# Altium footprint library Package_CSP.PcbLib: 127 footprints (part 3 of 8)
Each footprint in its own frame and in the unit in brackets; x right, y up, seen from the top. Pads: shape width x height; smd on the part's side, far side on the other; paste and mask are expansions set on the pad; w line width, h text height; cw(c..) or ccw(c..) is an arc to the next point about the centre after c.
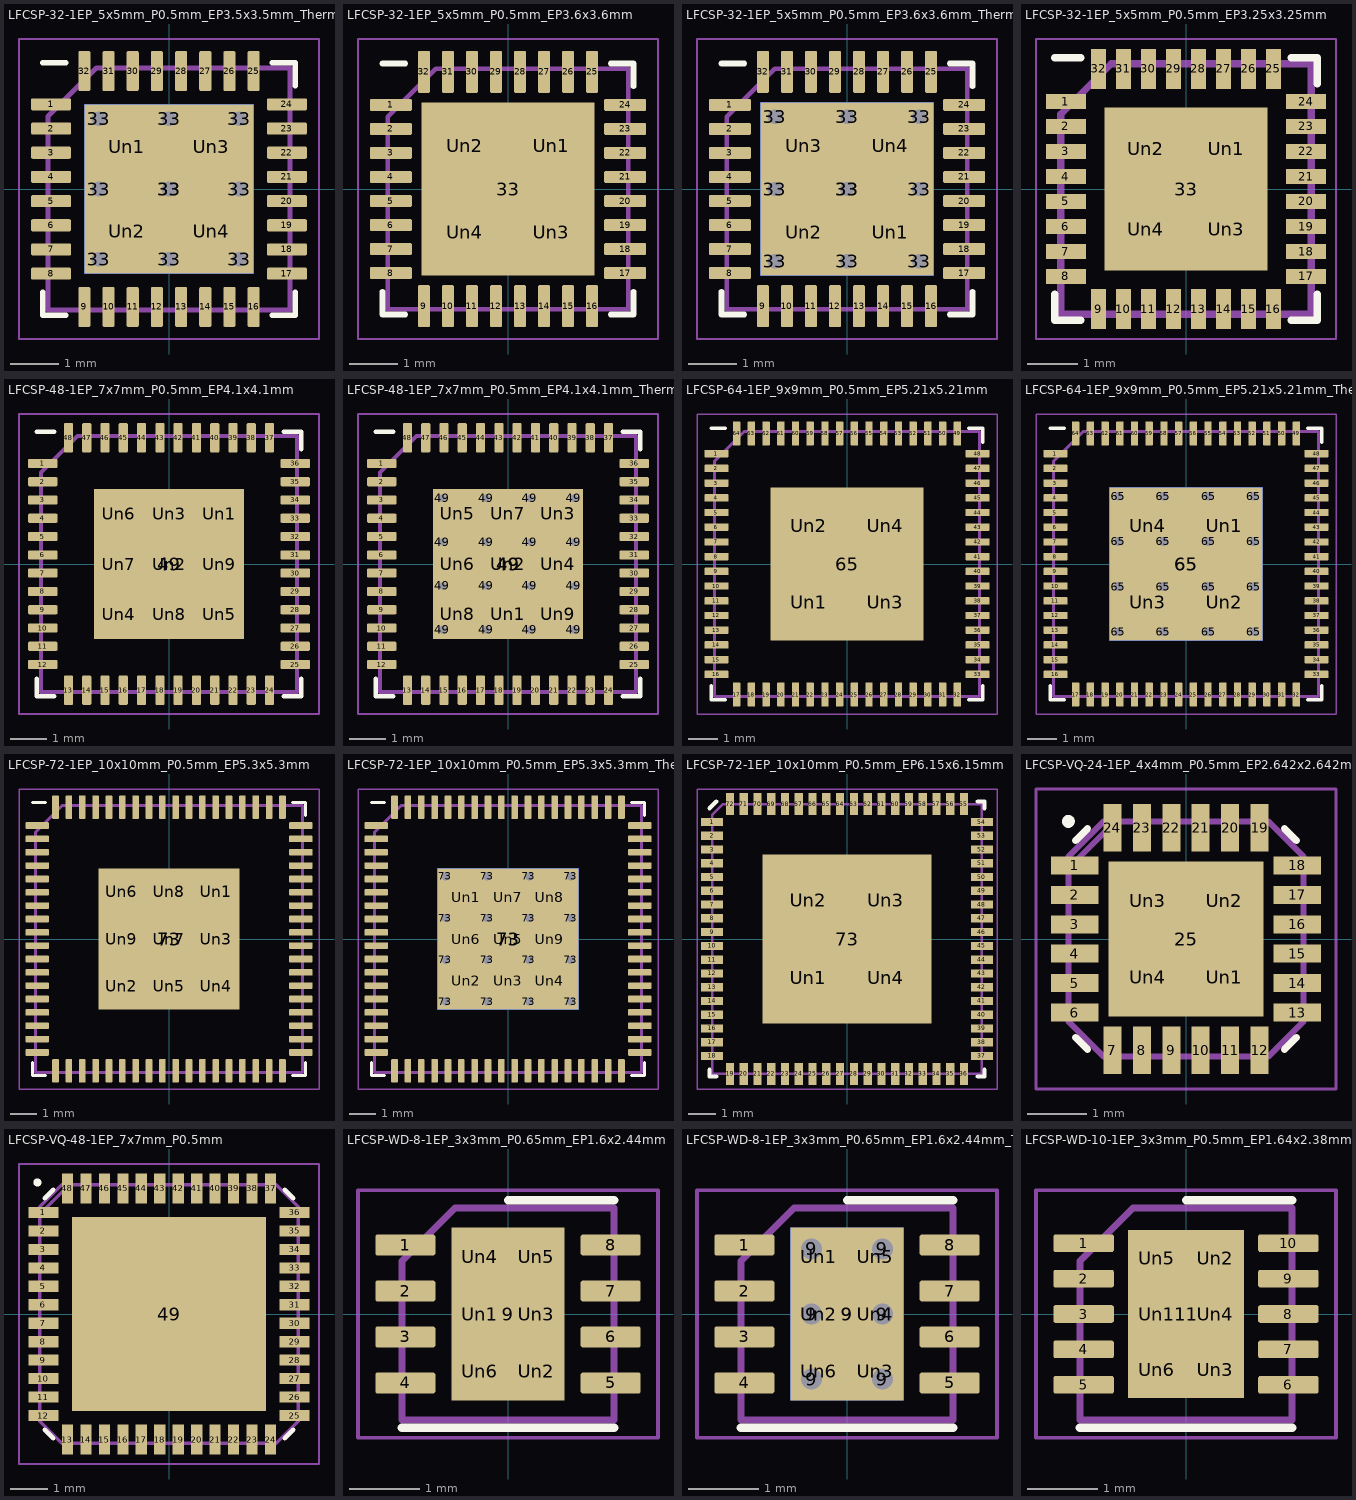
[diagram p2: the footprints below, top view; thin cyan lines are the x and y axes]

## LFCSP-32-1EP_5x5mm_P0.5mm_EP3.5x3.5mm_ThermalVias [mm]
pads (47):
  rrect25% 0.825x0.25 smd: 1(-2.438,1.75) 2(-2.438,1.25) 3(-2.438,0.75) 4(-2.438,0.25) 5(-2.438,-0.25) 6(-2.438,-0.75) 7(-2.438,-1.25) 8(-2.438,-1.75) 17(2.438,-1.75) 18(2.438,-1.25) 19(2.438,-0.75) 20(2.438,-0.25) 21(2.438,0.25) 22(2.438,0.75) 23(2.438,1.25) 24(2.438,1.75)
  rrect25% 0.25x0.825 smd: 9(-1.75,-2.438) 10(-1.25,-2.438) 11(-0.75,-2.438) 12(-0.25,-2.438) 13(0.25,-2.438) 14(0.75,-2.438) 15(1.25,-2.438) 16(1.75,-2.438) 25(1.75,2.438) 26(1.25,2.438) 27(0.75,2.438) 28(0.25,2.438) 29(-0.25,2.438) 30(-0.75,2.438) 31(-1.25,2.438) 32(-1.75,2.438)
  round 0.6 hole 0.3: 33(-1.45,-1.45) 33(-1.45,0) 33(-1.45,1.45) 33(0,-1.45) 33(0,0) 33(0,1.45) 33(1.45,-1.45) 33(1.45,0) 33(1.45,1.45)
  rect 3.5x3.5 smd: 33(0,0)
  rect 3.5x3.5 smd far side: 33(0,0)
  rrect17% 1.46x1.46 on Top Paste: Un1(-0.875,0.875) Un2(-0.875,-0.875) Un3(0.875,0.875) Un4(0.875,-0.875)
F.SilkS:
  lines w0.12: -2.61,-2.135 -2.61,-2.61 -2.135,-2.61 ; -2.61,2.61 -2.135,2.61 ; 2.135,-2.61 2.61,-2.61 2.61,-2.135 ; 2.135,2.61 2.61,2.61 2.61,2.135
F.CrtYd:
  lines w0.05: -3.1,-3.1 -3.1,3.1 3.1,3.1 3.1,-3.1 -3.1,-3.1
F.Fab:
  lines w0.1: -2.5,-2.5 2.5,-2.5 2.5,2.5 -1.5,2.5 -2.5,1.5 -2.5,-2.5
  text "'.Designator'" at -4.047,-0.84 h1

## LFCSP-32-1EP_5x5mm_P0.5mm_EP3.6x3.6mm [mm]
pads (37):
  rrect25% 0.875x0.25 smd: 1(-2.438,1.75) 2(-2.438,1.25) 3(-2.438,0.75) 4(-2.438,0.25) 5(-2.438,-0.25) 6(-2.438,-0.75) 7(-2.438,-1.25) 8(-2.438,-1.75) 17(2.438,-1.75) 18(2.438,-1.25) 19(2.438,-0.75) 20(2.438,-0.25) 21(2.438,0.25) 22(2.438,0.75) 23(2.438,1.25) 24(2.438,1.75)
  rrect25% 0.25x0.875 smd: 9(-1.75,-2.438) 10(-1.25,-2.438) 11(-0.75,-2.438) 12(-0.25,-2.438) 13(0.25,-2.438) 14(0.75,-2.438) 15(1.25,-2.438) 16(1.75,-2.438) 25(1.75,2.438) 26(1.25,2.438) 27(0.75,2.438) 28(0.25,2.438) 29(-0.25,2.438) 30(-0.75,2.438) 31(-1.25,2.438) 32(-1.75,2.438)
  rect 3.6x3.6 smd: 33(0,0)
  rrect17% 1.45x1.45 on Top Paste: Un1(0.9,0.9) Un2(-0.9,0.9) Un3(0.9,-0.9) Un4(-0.9,-0.9)
F.SilkS:
  lines w0.12: -2.61,-2.135 -2.61,-2.61 -2.135,-2.61 ; -2.61,2.61 -2.135,2.61 ; 2.135,-2.61 2.61,-2.61 2.61,-2.135 ; 2.135,2.61 2.61,2.61 2.61,2.135
F.CrtYd:
  lines w0.05: -3.12,-3.12 3.12,-3.12 3.12,3.12 -3.12,3.12 -3.12,-3.12
F.Fab:
  lines w0.1: -2.5,-2.5 2.5,-2.5 2.5,2.5 -1.5,2.5 -2.5,1.5 -2.5,-2.5
  text "'.Designator'" at -4.047,-0.84 h1

## LFCSP-32-1EP_5x5mm_P0.5mm_EP3.6x3.6mm_ThermalVias [mm]
pads (47):
  rrect25% 0.875x0.25 smd: 1(-2.438,1.75) 2(-2.438,1.25) 3(-2.438,0.75) 4(-2.438,0.25) 5(-2.438,-0.25) 6(-2.438,-0.75) 7(-2.438,-1.25) 8(-2.438,-1.75) 17(2.438,-1.75) 18(2.438,-1.25) 19(2.438,-0.75) 20(2.438,-0.25) 21(2.438,0.25) 22(2.438,0.75) 23(2.438,1.25) 24(2.438,1.75)
  rrect25% 0.25x0.875 smd: 9(-1.75,-2.438) 10(-1.25,-2.438) 11(-0.75,-2.438) 12(-0.25,-2.438) 13(0.25,-2.438) 14(0.75,-2.438) 15(1.25,-2.438) 16(1.75,-2.438) 25(1.75,2.438) 26(1.25,2.438) 27(0.75,2.438) 28(0.25,2.438) 29(-0.25,2.438) 30(-0.75,2.438) 31(-1.25,2.438) 32(-1.75,2.438)
  round 0.6 hole 0.3: 33(-1.5,-1.5) 33(-1.5,0) 33(-1.5,1.5) 33(0,-1.5) 33(0,0) 33(0,1.5) 33(1.5,-1.5) 33(1.5,0) 33(1.5,1.5)
  rect 3.6x3.6 smd: 33(0,0)
  rect 3.6x3.6 smd far side: 33(0,0)
  rrect17% 1.51x1.51 on Top Paste: Un1(0.9,-0.9) Un2(-0.9,-0.9) Un3(-0.9,0.9) Un4(0.9,0.9)
F.SilkS:
  lines w0.12: -2.61,-2.135 -2.61,-2.61 -2.135,-2.61 ; -2.61,2.61 -2.135,2.61 ; 2.135,-2.61 2.61,-2.61 2.61,-2.135 ; 2.135,2.61 2.61,2.61 2.61,2.135
F.CrtYd:
  lines w0.05: -3.12,-3.12 3.12,-3.12 3.12,3.12 -3.12,3.12 -3.12,-3.12
F.Fab:
  lines w0.1: -2.5,-2.5 2.5,-2.5 2.5,2.5 -1.5,2.5 -2.5,1.5 -2.5,-2.5
  text "'.Designator'" at -4.047,-0.84 h1

## LFCSP-32-1EP_5x5mm_P0.5mm_EP3.25x3.25mm [mm]
pads (37):
  rect 0.8x0.3 smd: 1(-2.4,1.75) 2(-2.4,1.25) 3(-2.4,0.75) 4(-2.4,0.25) 5(-2.4,-0.25) 6(-2.4,-0.75) 7(-2.4,-1.25) 8(-2.4,-1.75) 17(2.4,-1.75) 18(2.4,-1.25) 19(2.4,-0.75) 20(2.4,-0.25) 21(2.4,0.25) 22(2.4,0.75) 23(2.4,1.25) 24(2.4,1.75)
  rect 0.3x0.8 smd: 9(-1.75,-2.4) 10(-1.25,-2.4) 11(-0.75,-2.4) 12(-0.25,-2.4) 13(0.25,-2.4) 14(0.75,-2.4) 15(1.25,-2.4) 16(1.75,-2.4) 25(1.75,2.4) 26(1.25,2.4) 27(0.75,2.4) 28(0.25,2.4) 29(-0.25,2.4) 30(-0.75,2.4) 31(-1.25,2.4) 32(-1.75,2.4)
  rect 3.25x3.25 smd: 33(0,0)
  rect 1.3x1.3 on Top Paste: Un1(0.8,0.8) Un2(-0.8,0.8) Un3(0.8,-0.8) Un4(-0.8,-0.8)
F.SilkS:
  lines w0.15: -2.625,-2.1 -2.625,-2.625 -2.1,-2.625 ; -2.625,2.625 -2.1,2.625 ; 2.1,-2.625 2.625,-2.625 2.625,-2.1 ; 2.1,2.625 2.625,2.625 2.625,2.1
F.CrtYd:
  lines w0.05: -3,-3 -3,3 3,3 3,-3 -3,-3
F.Fab:
  lines w0.15: -2.5,-2.5 -2.5,1.5 -1.5,2.5 2.5,2.5 2.5,-2.5 -2.5,-2.5
  text "'.Designator'" at -4.047,-0.84 h1

## LFCSP-48-1EP_7x7mm_P0.5mm_EP4.1x4.1mm [mm]
pads (58):
  rrect25% 0.8x0.25 smd: 1(-3.45,2.75) 2(-3.45,2.25) 3(-3.45,1.75) 4(-3.45,1.25) 5(-3.45,0.75) 6(-3.45,0.25) 7(-3.45,-0.25) 8(-3.45,-0.75) 9(-3.45,-1.25) 10(-3.45,-1.75) 11(-3.45,-2.25) 12(-3.45,-2.75) 25(3.45,-2.75) 26(3.45,-2.25) 27(3.45,-1.75) 28(3.45,-1.25) 29(3.45,-0.75) 30(3.45,-0.25) 31(3.45,0.25) 32(3.45,0.75) 33(3.45,1.25) 34(3.45,1.75) 35(3.45,2.25) 36(3.45,2.75)
  rrect25% 0.25x0.8 smd: 13(-2.75,-3.45) 14(-2.25,-3.45) 15(-1.75,-3.45) 16(-1.25,-3.45) 17(-0.75,-3.45) 18(-0.25,-3.45) 19(0.25,-3.45) 20(0.75,-3.45) 21(1.25,-3.45) 22(1.75,-3.45) 23(2.25,-3.45) 24(2.75,-3.45) 37(2.75,3.45) 38(2.25,3.45) 39(1.75,3.45) 40(1.25,3.45) 41(0.75,3.45) 42(0.25,3.45) 43(-0.25,3.45) 44(-0.75,3.45) 45(-1.25,3.45) 46(-1.75,3.45) 47(-2.25,3.45) 48(-2.75,3.45)
  rect 4.1x4.1 smd: 49(0,0)
  rrect23% 1.1x1.1 on Top Paste: Un1(1.37,1.37) Un2(0,0) Un3(0,1.37) Un4(-1.37,-1.37) Un5(1.37,-1.37) Un6(-1.37,1.37) Un7(-1.37,0) Un8(0,-1.37) Un9(1.37,0)
F.SilkS:
  lines w0.12: -3.61,-3.135 -3.61,-3.61 -3.135,-3.61 ; -3.61,3.61 -3.135,3.61 ; 3.135,-3.61 3.61,-3.61 3.61,-3.135 ; 3.135,3.61 3.61,3.61 3.61,3.135
F.CrtYd:
  lines w0.05: -4.1,-4.1 -4.1,4.1 4.1,4.1 4.1,-4.1 -4.1,-4.1
F.Fab:
  lines w0.1: -3.5,-3.5 3.5,-3.5 3.5,3.5 -2.5,3.5 -3.5,2.5 -3.5,-3.5
  text "'.Designator'" at -4.047,-0.84 h1

## LFCSP-48-1EP_7x7mm_P0.5mm_EP4.1x4.1mm_ThermalVias [mm]
pads (75):
  rrect25% 0.8x0.25 smd: 1(-3.45,2.75) 2(-3.45,2.25) 3(-3.45,1.75) 4(-3.45,1.25) 5(-3.45,0.75) 6(-3.45,0.25) 7(-3.45,-0.25) 8(-3.45,-0.75) 9(-3.45,-1.25) 10(-3.45,-1.75) 11(-3.45,-2.25) 12(-3.45,-2.75) 25(3.45,-2.75) 26(3.45,-2.25) 27(3.45,-1.75) 28(3.45,-1.25) 29(3.45,-0.75) 30(3.45,-0.25) 31(3.45,0.25) 32(3.45,0.75) 33(3.45,1.25) 34(3.45,1.75) 35(3.45,2.25) 36(3.45,2.75)
  rrect25% 0.25x0.8 smd: 13(-2.75,-3.45) 14(-2.25,-3.45) 15(-1.75,-3.45) 16(-1.25,-3.45) 17(-0.75,-3.45) 18(-0.25,-3.45) 19(0.25,-3.45) 20(0.75,-3.45) 21(1.25,-3.45) 22(1.75,-3.45) 23(2.25,-3.45) 24(2.75,-3.45) 37(2.75,3.45) 38(2.25,3.45) 39(1.75,3.45) 40(1.25,3.45) 41(0.75,3.45) 42(0.25,3.45) 43(-0.25,3.45) 44(-0.75,3.45) 45(-1.25,3.45) 46(-1.75,3.45) 47(-2.25,3.45) 48(-2.75,3.45)
  round 0.5 hole 0.2: 49(-1.8,-1.8) 49(-1.8,-0.6) 49(-1.8,0.6) 49(-1.8,1.8) 49(-0.6,-1.8) 49(-0.6,-0.6) 49(-0.6,0.6) 49(-0.6,1.8) 49(0.6,-1.8) 49(0.6,-0.6) 49(0.6,0.6) 49(0.6,1.8) 49(1.8,-1.8) 49(1.8,-0.6) 49(1.8,0.6) 49(1.8,1.8)
  rect 4.1x4.1 smd far side: 49(0,0)
  rect 4.1x4.1 smd: 49(0,0)
  rrect22% 1.14x1.14 on Top Paste: Un1(0,-1.37) Un2(0,0) Un3(1.37,1.37) Un4(1.37,0) Un5(-1.37,1.37) Un6(-1.37,0) Un7(0,1.37) Un8(-1.37,-1.37) Un9(1.37,-1.37)
F.SilkS:
  lines w0.12: -3.61,-3.135 -3.61,-3.61 -3.135,-3.61 ; -3.61,3.61 -3.135,3.61 ; 3.135,-3.61 3.61,-3.61 3.61,-3.135 ; 3.135,3.61 3.61,3.61 3.61,3.135
F.CrtYd:
  lines w0.05: -4.1,-4.1 4.1,-4.1 4.1,4.1 -4.1,4.1 -4.1,-4.1
F.Fab:
  lines w0.1: -3.5,-3.5 -3.5,2.5 -2.5,3.5 3.5,3.5 3.5,-3.5 -3.5,-3.5
  text "'.Designator'" at -4.047,-0.84 h1

## LFCSP-64-1EP_9x9mm_P0.5mm_EP5.21x5.21mm [mm]
pads (69):
  rrect25% 0.825x0.25 smd: 1(-4.437,3.75) 2(-4.437,3.25) 3(-4.437,2.75) 4(-4.437,2.25) 5(-4.437,1.75) 6(-4.437,1.25) 7(-4.437,0.75) 8(-4.437,0.25) 9(-4.437,-0.25) 10(-4.437,-0.75) 11(-4.437,-1.25) 12(-4.437,-1.75) 13(-4.437,-2.25) 14(-4.437,-2.75) 15(-4.437,-3.25) 16(-4.437,-3.75) 33(4.437,-3.75) 34(4.437,-3.25) 35(4.437,-2.75) 36(4.437,-2.25) 37(4.437,-1.75) 38(4.437,-1.25) 39(4.437,-0.75) 40(4.437,-0.25) 41(4.437,0.25) 42(4.437,0.75) 43(4.437,1.25) 44(4.437,1.75) 45(4.437,2.25) 46(4.437,2.75) 47(4.437,3.25) 48(4.437,3.75)
  rrect25% 0.25x0.825 smd: 17(-3.75,-4.437) 18(-3.25,-4.437) 19(-2.75,-4.437) 20(-2.25,-4.437) 21(-1.75,-4.437) 22(-1.25,-4.437) 23(-0.75,-4.437) 24(-0.25,-4.437) 25(0.25,-4.437) 26(0.75,-4.437) 27(1.25,-4.437) 28(1.75,-4.437) 29(2.25,-4.437) 30(2.75,-4.437) 31(3.25,-4.437) 32(3.75,-4.437) 49(3.75,4.437) 50(3.25,4.437) 51(2.75,4.437) 52(2.25,4.437) 53(1.75,4.437) 54(1.25,4.437) 55(0.75,4.437) 56(0.25,4.437) 57(-0.25,4.437) 58(-0.75,4.437) 59(-1.25,4.437) 60(-1.75,4.437) 61(-2.25,4.437) 62(-2.75,4.437) 63(-3.25,4.437) 64(-3.75,4.437)
  rect 5.21x5.21 smd: 65(0,0)
  rrect12% 2.1x2.1 on Top Paste: Un1(-1.3,-1.3) Un2(-1.3,1.3) Un3(1.3,-1.3) Un4(1.3,1.3)
F.SilkS:
  lines w0.12: -4.61,-4.135 -4.61,-4.61 -4.135,-4.61 ; -4.61,4.61 -4.135,4.61 ; 4.135,-4.61 4.61,-4.61 4.61,-4.135 ; 4.135,4.61 4.61,4.61 4.61,4.135
F.CrtYd:
  lines w0.05: -5.1,-5.1 5.1,-5.1 5.1,5.1 -5.1,5.1 -5.1,-5.1
F.Fab:
  lines w0.1: -4.5,-4.5 -4.5,3.5 -3.5,4.5 4.5,4.5 4.5,-4.5 -4.5,-4.5
  text "'.Designator'" at -4.047,-0.84 h1

## LFCSP-64-1EP_9x9mm_P0.5mm_EP5.21x5.21mm_ThermalVias [mm]
pads (86):
  rrect25% 0.825x0.25 smd: 1(-4.437,3.75) 2(-4.437,3.25) 3(-4.437,2.75) 4(-4.437,2.25) 5(-4.437,1.75) 6(-4.437,1.25) 7(-4.437,0.75) 8(-4.437,0.25) 9(-4.437,-0.25) 10(-4.437,-0.75) 11(-4.437,-1.25) 12(-4.437,-1.75) 13(-4.437,-2.25) 14(-4.437,-2.75) 15(-4.437,-3.25) 16(-4.437,-3.75) 33(4.437,-3.75) 34(4.437,-3.25) 35(4.437,-2.75) 36(4.437,-2.25) 37(4.437,-1.75) 38(4.437,-1.25) 39(4.437,-0.75) 40(4.437,-0.25) 41(4.437,0.25) 42(4.437,0.75) 43(4.437,1.25) 44(4.437,1.75) 45(4.437,2.25) 46(4.437,2.75) 47(4.437,3.25) 48(4.437,3.75)
  rrect25% 0.25x0.825 smd: 17(-3.75,-4.437) 18(-3.25,-4.437) 19(-2.75,-4.437) 20(-2.25,-4.437) 21(-1.75,-4.437) 22(-1.25,-4.437) 23(-0.75,-4.437) 24(-0.25,-4.437) 25(0.25,-4.437) 26(0.75,-4.437) 27(1.25,-4.437) 28(1.75,-4.437) 29(2.25,-4.437) 30(2.75,-4.437) 31(3.25,-4.437) 32(3.75,-4.437) 49(3.75,4.437) 50(3.25,4.437) 51(2.75,4.437) 52(2.25,4.437) 53(1.75,4.437) 54(1.25,4.437) 55(0.75,4.437) 56(0.25,4.437) 57(-0.25,4.437) 58(-0.75,4.437) 59(-1.25,4.437) 60(-1.75,4.437) 61(-2.25,4.437) 62(-2.75,4.437) 63(-3.25,4.437) 64(-3.75,4.437)
  round 0.6 hole 0.3: 65(-2.305,-2.305) 65(-2.305,-0.768) 65(-2.305,0.768) 65(-2.305,2.305) 65(-0.768,-2.305) 65(-0.768,-0.768) 65(-0.768,0.768) 65(-0.768,2.305) 65(0.768,-2.305) 65(0.768,-0.768) 65(0.768,0.768) 65(0.768,2.305) 65(2.305,-2.305) 65(2.305,-0.768) 65(2.305,0.768) 65(2.305,2.305)
  rect 5.21x5.21 smd: 65(0,0)
  rect 5.21x5.21 smd far side: 65(0,0)
  rrect11% 2.26x2.26 on Top Paste: Un1(1.3,1.3) Un2(1.3,-1.3) Un3(-1.3,-1.3) Un4(-1.3,1.3)
F.SilkS:
  lines w0.12: -4.61,-4.135 -4.61,-4.61 -4.135,-4.61 ; -4.61,4.61 -4.135,4.61 ; 4.135,-4.61 4.61,-4.61 4.61,-4.135 ; 4.135,4.61 4.61,4.61 4.61,4.135
F.CrtYd:
  lines w0.05: -5.1,-5.1 5.1,-5.1 5.1,5.1 -5.1,5.1 -5.1,-5.1
F.Fab:
  lines w0.1: -4.5,-4.5 -4.5,3.5 -3.5,4.5 4.5,4.5 4.5,-4.5 -4.5,-4.5
  text "'.Designator'" at -4.047,-0.84 h1

## LFCSP-72-1EP_10x10mm_P0.5mm_EP5.3x5.3mm [mm]
pads (82):
  rrect25% 0.875x0.25 smd: 1(-4.938,4.25) 2(-4.938,3.75) 3(-4.938,3.25) 4(-4.938,2.75) 5(-4.938,2.25) 6(-4.938,1.75) 7(-4.938,1.25) 8(-4.938,0.75) 9(-4.938,0.25) 10(-4.938,-0.25) 11(-4.938,-0.75) 12(-4.938,-1.25) 13(-4.938,-1.75) 14(-4.938,-2.25) 15(-4.938,-2.75) 16(-4.938,-3.25) 17(-4.938,-3.75) 18(-4.938,-4.25) 37(4.938,-4.25) 38(4.938,-3.75) 39(4.938,-3.25) 40(4.938,-2.75) 41(4.938,-2.25) 42(4.938,-1.75) 43(4.938,-1.25) 44(4.938,-0.75) 45(4.938,-0.25) 46(4.938,0.25) 47(4.938,0.75) 48(4.938,1.25) 49(4.938,1.75) 50(4.938,2.25) 51(4.938,2.75) 52(4.938,3.25) 53(4.938,3.75) 54(4.938,4.25)
  rrect25% 0.25x0.875 smd: 19(-4.25,-4.938) 20(-3.75,-4.938) 21(-3.25,-4.938) 22(-2.75,-4.938) 23(-2.25,-4.938) 24(-1.75,-4.938) 25(-1.25,-4.938) 26(-0.75,-4.938) 27(-0.25,-4.938) 28(0.25,-4.938) 29(0.75,-4.938) 30(1.25,-4.938) 31(1.75,-4.938) 32(2.25,-4.938) 33(2.75,-4.938) 34(3.25,-4.938) 35(3.75,-4.938) 36(4.25,-4.938) 55(4.25,4.938) 56(3.75,4.938) 57(3.25,4.938) 58(2.75,4.938) 59(2.25,4.938) 60(1.75,4.938) 61(1.25,4.938) 62(0.75,4.938) 63(0.25,4.938) 64(-0.25,4.938) 65(-0.75,4.938) 66(-1.25,4.938) 67(-1.75,4.938) 68(-2.25,4.938) 69(-2.75,4.938) 70(-3.25,4.938) 71(-3.75,4.938) 72(-4.25,4.938)
  rect 5.3x5.3 smd: 73(0,0)
  rrect18% 1.42x1.42 on Top Paste: Un1(1.77,1.77) Un2(-1.77,-1.77) Un3(1.77,0) Un4(1.77,-1.77) Un5(0,-1.77) Un6(-1.77,1.77) Un7(0,0) Un8(0,1.77) Un9(-1.77,0)
F.SilkS:
  lines w0.12: -5.11,-4.635 -5.11,-5.11 -4.635,-5.11 ; -5.11,5.11 -4.635,5.11 ; 4.635,-5.11 5.11,-5.11 5.11,-4.635 ; 4.635,5.11 5.11,5.11 5.11,4.635
F.CrtYd:
  lines w0.05: -5.62,-5.62 -5.62,5.62 5.62,5.62 5.62,-5.62 -5.62,-5.62
F.Fab:
  lines w0.1: -5,-5 5,-5 5,5 -4,5 -5,4 -5,-5
  text "'.Designator'" at -4.047,-0.84 h1

## LFCSP-72-1EP_10x10mm_P0.5mm_EP5.3x5.3mm_ThermalVias [mm]
pads (99):
  rrect25% 0.875x0.25 smd: 1(-4.938,4.25) 2(-4.938,3.75) 3(-4.938,3.25) 4(-4.938,2.75) 5(-4.938,2.25) 6(-4.938,1.75) 7(-4.938,1.25) 8(-4.938,0.75) 9(-4.938,0.25) 10(-4.938,-0.25) 11(-4.938,-0.75) 12(-4.938,-1.25) 13(-4.938,-1.75) 14(-4.938,-2.25) 15(-4.938,-2.75) 16(-4.938,-3.25) 17(-4.938,-3.75) 18(-4.938,-4.25) 37(4.938,-4.25) 38(4.938,-3.75) 39(4.938,-3.25) 40(4.938,-2.75) 41(4.938,-2.25) 42(4.938,-1.75) 43(4.938,-1.25) 44(4.938,-0.75) 45(4.938,-0.25) 46(4.938,0.25) 47(4.938,0.75) 48(4.938,1.25) 49(4.938,1.75) 50(4.938,2.25) 51(4.938,2.75) 52(4.938,3.25) 53(4.938,3.75) 54(4.938,4.25)
  rrect25% 0.25x0.875 smd: 19(-4.25,-4.938) 20(-3.75,-4.938) 21(-3.25,-4.938) 22(-2.75,-4.938) 23(-2.25,-4.938) 24(-1.75,-4.938) 25(-1.25,-4.938) 26(-0.75,-4.938) 27(-0.25,-4.938) 28(0.25,-4.938) 29(0.75,-4.938) 30(1.25,-4.938) 31(1.75,-4.938) 32(2.25,-4.938) 33(2.75,-4.938) 34(3.25,-4.938) 35(3.75,-4.938) 36(4.25,-4.938) 55(4.25,4.938) 56(3.75,4.938) 57(3.25,4.938) 58(2.75,4.938) 59(2.25,4.938) 60(1.75,4.938) 61(1.25,4.938) 62(0.75,4.938) 63(0.25,4.938) 64(-0.25,4.938) 65(-0.75,4.938) 66(-1.25,4.938) 67(-1.75,4.938) 68(-2.25,4.938) 69(-2.75,4.938) 70(-3.25,4.938) 71(-3.75,4.938) 72(-4.25,4.938)
  round 0.6 hole 0.3: 73(-2.35,-2.35) 73(-2.35,-0.783) 73(-2.35,0.783) 73(-2.35,2.35) 73(-0.783,-2.35) 73(-0.783,-0.783) 73(-0.783,0.783) 73(-0.783,2.35) 73(0.783,-2.35) 73(0.783,-0.783) 73(0.783,0.783) 73(0.783,2.35) 73(2.35,-2.35) 73(2.35,-0.783) 73(2.35,0.783) 73(2.35,2.35)
  rect 5.3x5.3 smd: 73(0,0)
  rect 5.3x5.3 smd far side: 73(0,0)
  round 1.275 on Top Paste: Un1(-1.567,1.567) Un2(-1.567,-1.567) Un3(0,-1.567) Un4(1.567,-1.567) Un5(0,0) Un6(-1.567,0) Un7(0,1.567) Un8(1.567,1.567) Un9(1.567,0)
F.SilkS:
  lines w0.12: -5.11,-4.635 -5.11,-5.11 -4.635,-5.11 ; -5.11,5.11 -4.635,5.11 ; 4.635,-5.11 5.11,-5.11 5.11,-4.635 ; 4.635,5.11 5.11,5.11 5.11,4.635
F.Paste:
  region: -1.004,2.006 -1.004,1.128 -1.128,1.004 -2.006,1.004 -2.129,1.128 -2.129,2.006 -2.006,2.129 -1.128,2.129
  region: -1.004,-1.128 -1.004,-2.006 -1.128,-2.129 -2.006,-2.129 -2.129,-2.006 -2.129,-1.128 -2.006,-1.004 -1.128,-1.004
  region: 0.563,-1.128 0.563,-2.006 0.439,-2.129 -0.439,-2.129 -0.563,-2.006 -0.563,-1.128 -0.439,-1.004 0.439,-1.004
  region: 2.129,-1.128 2.129,-2.006 2.006,-2.129 1.128,-2.129 1.004,-2.006 1.004,-1.128 1.128,-1.004 2.006,-1.004
  region: 0.563,0.439 0.563,-0.439 0.439,-0.563 -0.439,-0.563 -0.563,-0.439 -0.563,0.439 -0.439,0.563 0.439,0.563
  region: -1.004,0.439 -1.004,-0.439 -1.128,-0.563 -2.006,-0.563 -2.129,-0.439 -2.129,0.439 -2.006,0.563 -1.128,0.563
  region: 0.563,2.006 0.563,1.128 0.439,1.004 -0.439,1.004 -0.563,1.128 -0.563,2.006 -0.439,2.129 0.439,2.129
  region: 2.129,2.006 2.129,1.128 2.006,1.004 1.128,1.004 1.004,1.128 1.004,2.006 1.128,2.129 2.006,2.129
  region: 2.129,0.439 2.129,-0.439 2.006,-0.563 1.128,-0.563 1.004,-0.439 1.004,0.439 1.128,0.563 2.006,0.563
F.CrtYd:
  lines w0.05: -5.62,-5.62 -5.62,5.62 5.62,5.62 5.62,-5.62 -5.62,-5.62
F.Fab:
  lines w0.1: -5,-5 -5,4 -4,5 5,5 5,-5 -5,-5
  text "'.Designator'" at -4.047,-0.84 h1

## LFCSP-72-1EP_10x10mm_P0.5mm_EP6.15x6.15mm [mm]
pads (77):
  rect 0.8x0.3 smd: 1(-4.9,4.25) 2(-4.9,3.75) 3(-4.9,3.25) 4(-4.9,2.75) 5(-4.9,2.25) 6(-4.9,1.75) 7(-4.9,1.25) 8(-4.9,0.75) 9(-4.9,0.25) 10(-4.9,-0.25) 11(-4.9,-0.75) 12(-4.9,-1.25) 13(-4.9,-1.75) 14(-4.9,-2.25) 15(-4.9,-2.75) 16(-4.9,-3.25) 17(-4.9,-3.75) 18(-4.9,-4.25) 37(4.9,-4.25) 38(4.9,-3.75) 39(4.9,-3.25) 40(4.9,-2.75) 41(4.9,-2.25) 42(4.9,-1.75) 43(4.9,-1.25) 44(4.9,-0.75) 45(4.9,-0.25) 46(4.9,0.25) 47(4.9,0.75) 48(4.9,1.25) 49(4.9,1.75) 50(4.9,2.25) 51(4.9,2.75) 52(4.9,3.25) 53(4.9,3.75) 54(4.9,4.25)
  rect 0.3x0.8 smd: 19(-4.25,-4.9) 20(-3.75,-4.9) 21(-3.25,-4.9) 22(-2.75,-4.9) 23(-2.25,-4.9) 24(-1.75,-4.9) 25(-1.25,-4.9) 26(-0.75,-4.9) 27(-0.25,-4.9) 28(0.25,-4.9) 29(0.75,-4.9) 30(1.25,-4.9) 31(1.75,-4.9) 32(2.25,-4.9) 33(2.75,-4.9) 34(3.25,-4.9) 35(3.75,-4.9) 36(4.25,-4.9) 55(4.25,4.9) 56(3.75,4.9) 57(3.25,4.9) 58(2.75,4.9) 59(2.25,4.9) 60(1.75,4.9) 61(1.25,4.9) 62(0.75,4.9) 63(0.25,4.9) 64(-0.25,4.9) 65(-0.75,4.9) 66(-1.25,4.9) 67(-1.75,4.9) 68(-2.25,4.9) 69(-2.75,4.9) 70(-3.25,4.9) 71(-3.75,4.9) 72(-4.25,4.9)
  rect 6.15x6.15 smd: 73(0,0)
  rect 2.5x2.5 on Top Paste: Un1(-1.4,-1.4) Un2(-1.4,1.4) Un3(1.4,1.4) Un4(1.4,-1.4)
F.SilkS:
  lines w0.15: -5,-4.75 -5,-5 -4.75,-5 ; -5,4.75 -4.75,5 ; 4.75,-5 5,-5 5,-4.75 ; 4.75,5 5,5 5,4.75
F.CrtYd:
  lines w0.05: -5.45,-5.45 -5.45,5.45 5.45,5.45 5.45,-5.45 -5.45,-5.45
F.Fab:
  lines w0.1: -4.9,-4.9 -4.9,4.5 -4.5,4.9 4.9,4.9 4.9,-4.9 -4.9,-4.9
  text "'.Designator'" at -4.047,-0.84 h1

## LFCSP-VQ-24-1EP_4x4mm_P0.5mm_EP2.642x2.642mm [mm]
pads (29):
  rect 0.813x0.305 smd: 1(-1.893,1.25) 2(-1.893,0.75) 3(-1.893,0.25) 4(-1.893,-0.25) 5(-1.893,-0.75) 6(-1.893,-1.25) 13(1.893,-1.25) 14(1.893,-0.75) 15(1.893,-0.25) 16(1.893,0.25) 17(1.893,0.75) 18(1.893,1.25)
  rect 0.305x0.813 smd: 7(-1.25,-1.893) 8(-0.75,-1.893) 9(-0.25,-1.893) 10(0.25,-1.893) 11(0.75,-1.893) 12(1.25,-1.893) 19(1.25,1.893) 20(0.75,1.893) 21(0.25,1.893) 22(-0.25,1.893) 23(-0.75,1.893) 24(-1.25,1.893)
  rect 2.642x2.642 smd: 25(0,0)
  rect 1.05x1.05 on Top Paste: Un1(0.65,-0.65) Un2(0.65,0.65) Un3(-0.65,0.65) Un4(-0.65,-0.65)
F.SilkS:
  circle w0.12: c-2,2 r0.05
  lines w0.12: -1.875,-1.675 -1.675,-1.875 ; -1.875,1.675 -1.675,1.875 ; 1.675,-1.875 1.875,-1.675 ; 1.675,1.875 1.875,1.675
F.CrtYd:
  lines w0.05: -2.55,-2.55 -2.55,2.55 2.55,2.55 2.55,-2.55 -2.55,-2.55
F.Fab:
  lines w0.1: -2,1.2 -1.2,2 ; -2,-1.4 -2,1.4 -1.4,2 1.4,2 2,1.4 2,-1.4 1.4,-2 -1.4,-2 -2,-1.4
  text "'.Designator'" at -4.047,-0.84 h1

## LFCSP-VQ-48-1EP_7x7mm_P0.5mm [mm]
pads (49):
  rect 0.81x0.3 smd: 1(-3.4,2.75) 2(-3.4,2.25) 3(-3.4,1.75) 4(-3.4,1.25) 5(-3.4,0.75) 6(-3.4,0.25) 7(-3.4,-0.25) 8(-3.4,-0.75) 9(-3.4,-1.25) 10(-3.4,-1.75) 11(-3.4,-2.25) 12(-3.4,-2.75) 25(3.4,-2.75) 26(3.4,-2.25) 27(3.4,-1.75) 28(3.4,-1.25) 29(3.4,-0.75) 30(3.4,-0.25) 31(3.4,0.25) 32(3.4,0.75) 33(3.4,1.25) 34(3.4,1.75) 35(3.4,2.25) 36(3.4,2.75)
  rect 0.3x0.81 smd: 13(-2.75,-3.4) 14(-2.25,-3.4) 15(-1.75,-3.4) 16(-1.25,-3.4) 17(-0.75,-3.4) 18(-0.25,-3.4) 19(0.25,-3.4) 20(0.75,-3.4) 21(1.25,-3.4) 22(1.75,-3.4) 23(2.25,-3.4) 24(2.75,-3.4) 37(2.75,3.4) 38(2.25,3.4) 39(1.75,3.4) 40(1.25,3.4) 41(0.75,3.4) 42(0.25,3.4) 43(-0.25,3.4) 44(-0.75,3.4) 45(-1.25,3.4) 46(-1.75,3.4) 47(-2.25,3.4) 48(-2.75,3.4)
  rect 5.26x5.26 smd: 49(0,0)
F.SilkS:
  circle w0.12: c-3.56,3.56 r0.05
  lines w0.12: -3.36,-3.13 -3.13,-3.36 ; -3.36,3.13 -3.13,3.36 ; 3.13,-3.36 3.36,-3.13 ; 3.13,3.36 3.36,3.13
F.CrtYd:
  lines w0.05: -4.06,-4.06 4.06,-4.06 4.06,4.06 -4.06,4.06 -4.06,-4.06
F.Fab:
  lines w0.1: -3.5,2.7 -2.7,3.5 ; -3.5,-2.9 -2.9,-3.5 2.9,-3.5 3.5,-2.9 3.5,2.9 2.9,3.5 -2.9,3.5 -3.5,2.9 -3.5,-2.9
  text "'.Designator'" at -4.047,-0.84 h1

## LFCSP-WD-8-1EP_3x3mm_P0.65mm_EP1.6x2.44mm [mm]
pads (15):
  rrect25% 0.85x0.3 smd: 1(-1.45,0.975) 2(-1.45,0.325) 3(-1.45,-0.325) 4(-1.45,-0.975) 5(1.45,-0.975) 6(1.45,-0.325) 7(1.45,0.325) 8(1.45,0.975)
  rect 1.6x2.44 smd: 9(0,0)
  rrect25% 0.64x0.66 on Top Paste: Un1(-0.4,0) Un2(0.4,-0.81) Un3(0.4,0) Un4(-0.4,0.81) Un5(0.4,0.81) Un6(-0.4,-0.81)
F.SilkS:
  lines w0.12: -1.5,-1.61 1.5,-1.61 ; 0,1.61 1.5,1.61
F.CrtYd:
  lines w0.05: -2.12,-1.75 -2.12,1.75 2.12,1.75 2.12,-1.75 -2.12,-1.75
F.Fab:
  lines w0.1: -1.5,-1.5 -1.5,0.75 -0.75,1.5 1.5,1.5 1.5,-1.5 -1.5,-1.5
  text "'.Designator'" at -3.033,-0.628 h0.75

## LFCSP-WD-8-1EP_3x3mm_P0.65mm_EP1.6x2.44mm_ThermalVias [mm]
pads (22):
  rrect25% 0.85x0.3 smd: 1(-1.45,0.975) 2(-1.45,0.325) 3(-1.45,-0.325) 4(-1.45,-0.975) 5(1.45,-0.975) 6(1.45,-0.325) 7(1.45,0.325) 8(1.45,0.975)
  round 0.6 hole 0.3: 9(-0.5,-0.92) 9(-0.5,0) 9(-0.5,0.92) 9(0.5,-0.92) 9(0.5,0) 9(0.5,0.92)
  rect 1.6x2.44 smd: 9(0,0)
  rect 1.6x2.44 smd far side: 9(0,0)
  rrect25% 0.64x0.66 on Top Paste: Un1(-0.4,0.81) Un2(-0.4,0) Un3(0.4,-0.81) Un4(0.4,0) Un5(0.4,0.81) Un6(-0.4,-0.81)
F.SilkS:
  lines w0.12: -1.5,-1.61 1.5,-1.61 ; 0,1.61 1.5,1.61
F.CrtYd:
  lines w0.05: -2.12,-1.75 -2.12,1.75 2.12,1.75 2.12,-1.75 -2.12,-1.75
F.Fab:
  lines w0.1: -1.5,-1.5 1.5,-1.5 1.5,1.5 -0.75,1.5 -1.5,0.75 -1.5,-1.5
  text "'.Designator'" at -3.033,-0.628 h0.75

## LFCSP-WD-10-1EP_3x3mm_P0.5mm_EP1.64x2.38mm [mm]
pads (17):
  rrect25% 0.855x0.25 smd: 1(-1.448,1) 2(-1.448,0.5) 3(-1.448,0) 4(-1.448,-0.5) 5(-1.448,-1) 6(1.448,-1) 7(1.448,-0.5) 8(1.448,0) 9(1.448,0.5) 10(1.448,1)
  rect 1.64x2.38 smd: 11(0,0)
  rrect25% 0.66x0.64 on Top Paste: Un1(-0.41,0) Un2(0.41,0.79) Un3(0.41,-0.79) Un4(0.41,0) Un5(-0.41,0.79) Un6(-0.41,-0.79)
F.SilkS:
  lines w0.12: -1.5,-1.61 1.5,-1.61 ; 0,1.61 1.5,1.61
F.CrtYd:
  lines w0.05: -2.12,-1.75 2.12,-1.75 2.12,1.75 -2.12,1.75 -2.12,-1.75
F.Fab:
  lines w0.1: -1.5,-1.5 -1.5,0.75 -0.75,1.5 1.5,1.5 1.5,-1.5 -1.5,-1.5
  text "'.Designator'" at -3.033,-0.628 h0.75